# Altium footprint library PowerSplitter.PcbLib: 3 footprints
Each footprint in its own frame and in the unit in brackets; x right, y up, seen from the top. Pads: shape width x height; smd on the part's side, far side on the other; paste and mask are expansions set on the pad; w line width, h text height; cw(c..) or ccw(c..) is an arc to the next point about the centre after c.
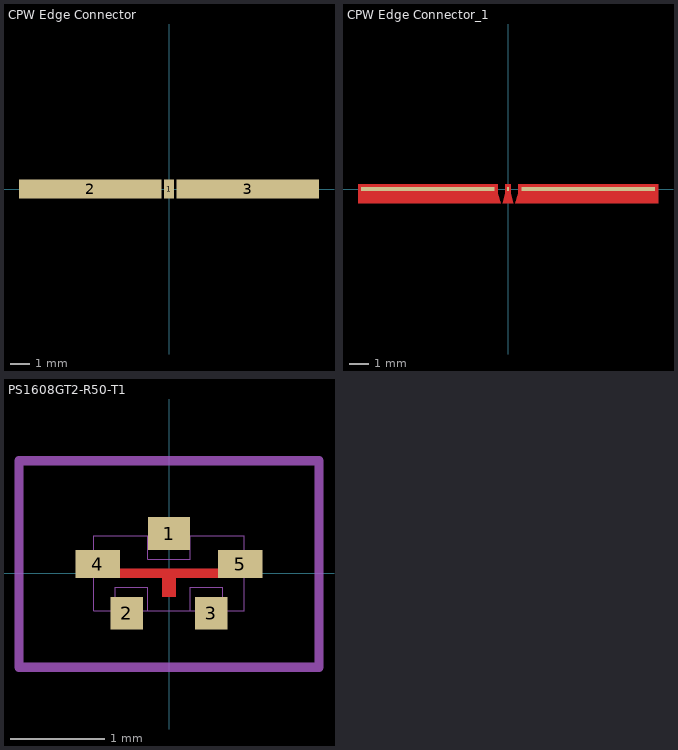
[diagram p0: the footprints below, top view; thin cyan lines are the x and y axes]

## CPW Edge Connector [mm]
pads (3):
  rect 0.538x1 smd paste-2539.97 mask+0: 1(0,0)
  rect 7.5x1 smd paste-1 mask+0: 2(-4.133,0)
  rect 7.5x1 smd paste-2539.97 mask+0: 3(4.133,0)

## CPW Edge Connector_1 [mm]
pads (3):
  rect 0.1x0.2 smd paste-10 mask-10: 1(0,0)
  rect 7x0.2 smd paste-10 mask-10: 2(-4.217,0) 3(4.217,0)
Top Layer:
  region: -0.15,0.25 0.15,0.25 0.15,-0.25 0.269,-0.75 -0.269,-0.75 -0.15,-0.25
  region: -0.55,0.25 -7.883,0.25 -7.883,-0.75 -0.383,-0.75 -0.55,-0.25
  region: 0.55,0.25 7.883,0.25 7.883,-0.75 0.383,-0.75 0.55,-0.25

## PS1608GT2-R50-T1 [mm]
pads (5):
  rect 0.45x0.35 smd: 1(0,0.425)
  rect 0.35x0.35 smd: 2(-0.45,-0.425) 3(0.45,-0.425)
  rect 0.475x0.3 smd: 4(-0.762,0.1) 5(0.762,0.1)
Top Layer:
  rectangle: -0.075,-0.25 0.075,-0.05
  rectangle: -0.525,-0.05 0.525,0.05
Mechanical 15:
  lines w0.005: -0.8,-0.4 0.8,-0.4 0.8,0.4 -0.8,0.4 -0.8,-0.4 ; -0.575,-0.4 -0.225,-0.4 -0.225,-0.15 -0.575,-0.15 -0.575,-0.4 ; -0.225,0.15 0.225,0.15 0.225,0.4 -0.225,0.4 -0.225,0.15 ; 0.225,-0.4 0.575,-0.4 0.575,-0.15 0.225,-0.15 0.225,-0.4
Mechanical 20:
  lines w0.1: -1.6,-1 1.6,-1 1.6,1.2 -1.6,1.2 -1.6,-1
3D body "PS1608GT2-R50-T1.stp": height 0.4, standoff 0, extent -0.8,-0.4 0.8,0.4